# Altium footprint library ES_Pcb_x.PcbLib: 354 footprints (part 9 of 23)
Each footprint in its own frame and in the unit in brackets; x right, y up, seen from the top. Pads: shape width x height; smd on the part's side, far side on the other; paste and mask are expansions set on the pad; w line width, h text height; cw(c..) or ccw(c..) is an arc to the next point about the centre after c.
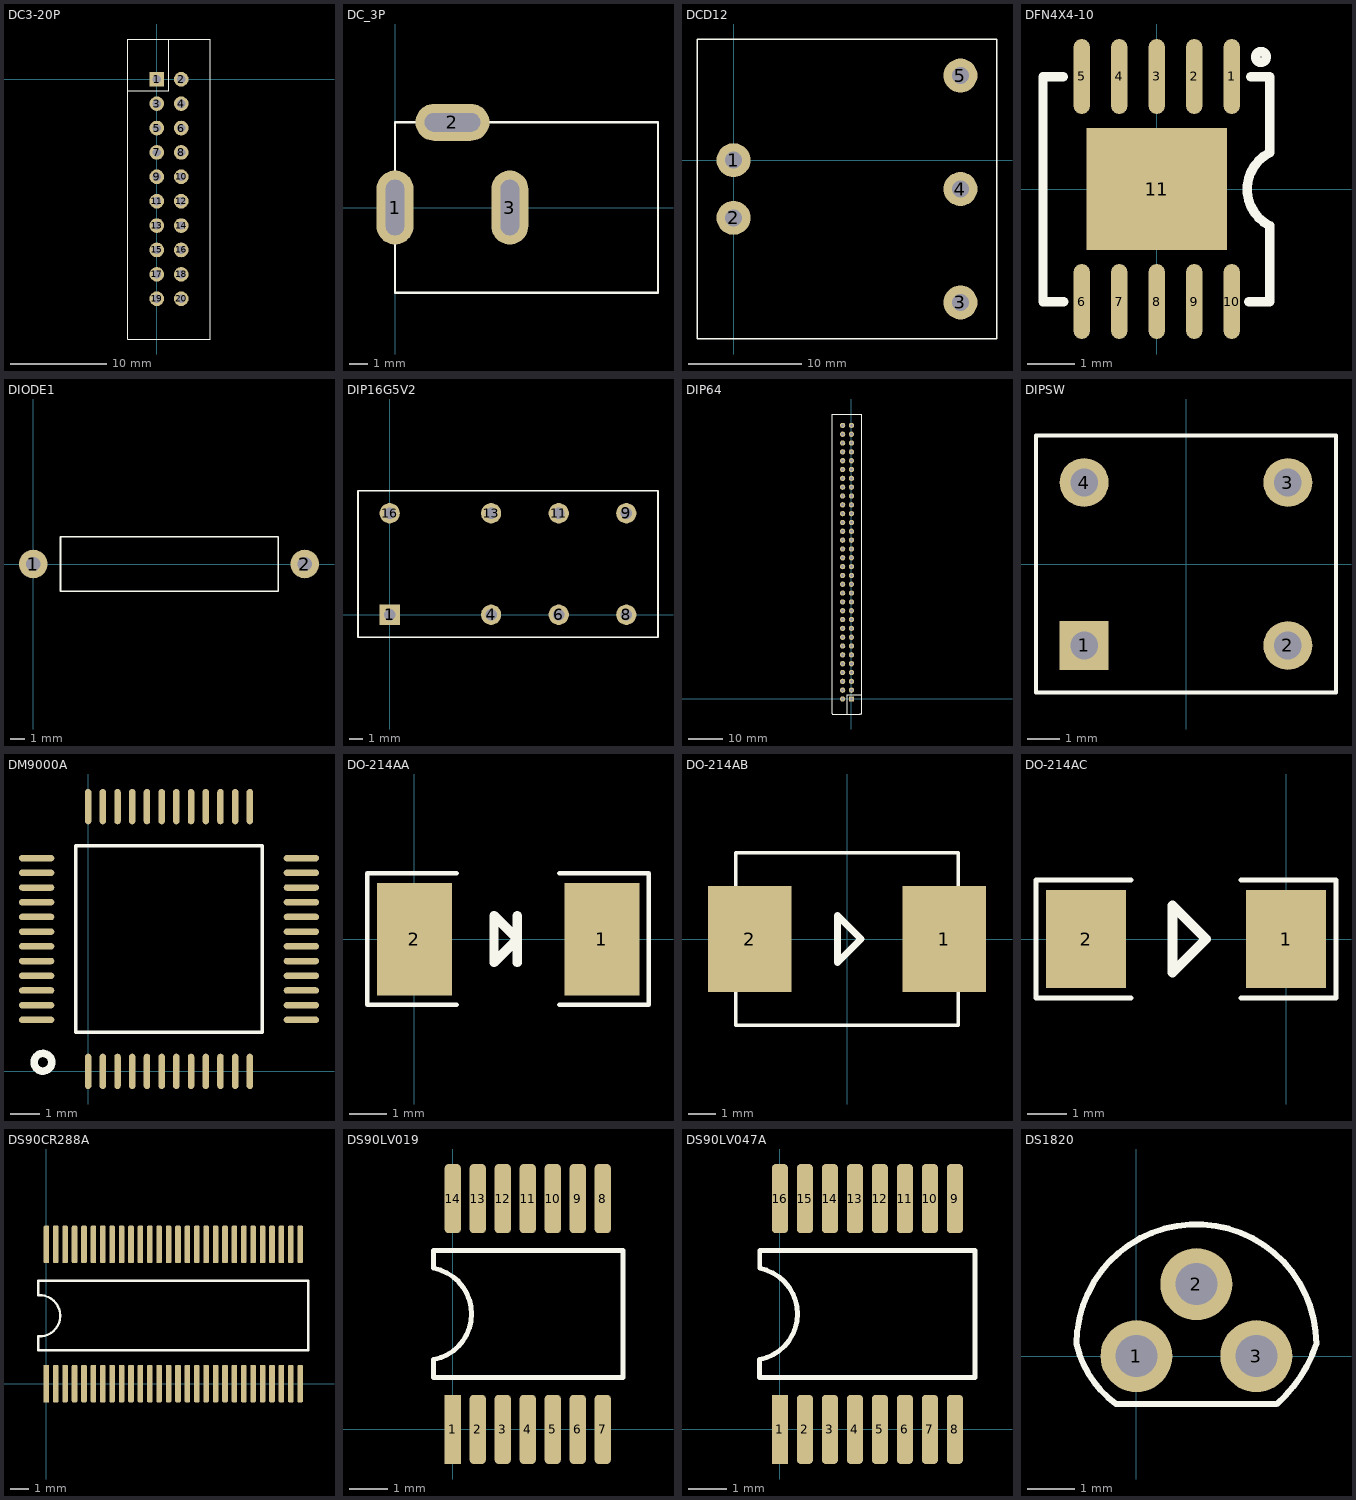
[diagram p8: the footprints below, top view; thin cyan lines are the x and y axes]

## DC3-20P [mil]
pads (20):
  rect 60x60 hole 34: 1(0,0)
  round 60 hole 34: 2(100,0) 3(0,-100) 4(100,-100) 5(0,-200) 6(100,-200) 7(0,-300) 8(100,-300) 9(0,-400) 10(100,-400) 11(0,-500) 12(100,-500) 13(0,-600) 14(100,-600) 15(0,-700) 16(100,-700) 17(0,-800) 18(100,-800) 19(0,-900) 20(100,-900)
Top Overlay:
  lines w5: -120,-48 49,-48 49,163 ; -120,-1065 -120,165 220,165 220,-1065 -120,-1065

## DC_3P [mm]
pads (3):
  oval 2x4 hole 1 slot 3 at 90 deg: 1(0,0) 3(6.2,0)
  oval 4x2 hole 1 slot 3 at 0 deg: 2(3.1,4.6)
Top Overlay:
  lines w0.127: 14.2,-4.6 0,-4.6 0,4.6 14.2,4.6 ; 14.2,-4.572 14.2,4.572

## DCD12 [mm]
pads (5):
  round 3 hole 1.5: 1(0,0) 2(0,-5.08) 3(20,-12.54) 4(20,-2.54) 5(20,7.46)
Top Overlay:
  lines w0.127: -3.225,-15.765 -3.225,10.685 23.225,10.685 23.225,-15.765 -3.225,-15.765

## DFN4X4-10 [mm]
pads (11):
  oval 0.35x1.6 smd: 1(1.6,2.4) 2(0.8,2.4) 3(0,2.4) 4(-0.8,2.4) 5(-1.6,2.4) 6(-1.6,-2.4) 7(-0.8,-2.4) 8(0,-2.4) 9(0.8,-2.4) 10(1.6,-2.4)
  rect 3x2.6 smd: 11(0,0)
Top Overlay:
  circle w0.2: c2.223,2.817 r0.115
  lines w0.2: -1.99,2.391 -2.426,2.391 -2.426,-2.409 -1.987,-2.409 ; 1.965,-2.409 2.409,-2.409 2.409,-0.779 ; 2.008,2.397 2.409,2.397 2.409,0.772 ; 2.409,-0.785 cw(c2.802,-0.005) 2.409,0.775

## DIODE1 [mm]
pads (2):
  round 2 hole 1: 1(0,0) 2(19,0)
Top Overlay:
  lines w0.127: 1.905,-1.905 17.145,-1.905 17.145,1.905 1.905,1.905 1.905,-1.905

## DIP16G5V2 [mil]
pads (8):
  rect 60x60 hole 34: 1(0,0)
  round 60 hole 34: 4(300,0) 6(500,0) 8(700,0) 9(700,300) 11(500,300) 13(300,300) 16(0,300)
Top Overlay:
  lines w5: -93.7,-66.53 -93.7,366.54 793.7,366.54 793.7,-66.53 -93.7,-66.53

## DIP64 [mil]
pads (64):
  rect 60x60 hole 32: 1(0,0)
  round 60 hole 32: 2(-100,0) 3(0,100) 4(-100,100) 5(0,200) 6(-100,200) 7(0,300) 8(-100,300) 9(0,400) 10(-100,400) 11(0,500) 12(-100,500) 13(0,600) 14(-100,600) 15(0,700) 16(-100,700) 17(0,800) 18(-100,800) 19(0,900) 20(-100,900) 21(0,1000) 22(-100,1000) 23(0,1100) 24(-100,1100) 25(0,1200) 26(-100,1200) 27(0,1300) 28(-100,1300) 29(0,1400) 30(-100,1400) 31(0,1500) 32(-100,1500) 33(0,1600) 34(-100,1600) 35(0,1700) 36(-100,1700) 37(0,1800) 38(-100,1800) 39(0,1900) 40(-100,1900) 41(0,2000) 42(-100,2000) 43(0,2100) 44(-100,2100) 45(0,2200) 46(-100,2200) 47(0,2300) 48(-100,2300) 49(0,2400) 50(-100,2400) 51(0,2500) 52(-100,2500) 53(0,2600) 54(-100,2600) 55(0,2700) 56(-100,2700) 57(0,2800) 58(-100,2800) 59(0,2900) 60(-100,2900) 61(0,3000) 62(-100,3000) 63(0,3100) 64(-100,3100)
Top Overlay:
  lines w5: -217.48,3228.78 -217.87,3229.17 ; -200.39,3229.17 -217.87,3229.17 ; -200,3228.78 101.77,3228.94 113.58,3228.94 117.13,3225.39 ; -50,-167.52 -50,50 98.82,50 113.39,50 ; 117.13,3225 117.13,-50 117.13,-167.13 114.76,-169.49 100,-169.49 99.49,-170 83.07,-170 -61.65,-170 -198.11,-170 -217.8,-170 -217.87,-169.92 -217.87,-50 -217.87,3220.08 -217.87,3229.17

## DIPSW [mil]
pads (4):
  rect 60x60 hole 34: 1(-125,-100)
  round 60 hole 34: 2(125,-100) 3(125,100) 4(-125,100)
Top Overlay:
  lines w5: -184.06,-157.48 -184.06,157.48 184.06,157.48 184.06,-157.48 -184.06,-157.48

## DM9000A [mm]
pads (48):
  oval 0.22x1.2 smd: 1(0,0) 2(0.5,0) 3(1,0) 4(1.5,0) 5(2,0) 6(2.5,0) 7(3,0) 8(3.5,0) 9(4,0) 10(4.5,0) 11(5,0) 12(5.5,0) 25(5.5,9) 26(5,9) 27(4.5,9) 28(4,9) 29(3.5,9) 30(3,9) 31(2.5,9) 32(2,9) 33(1.5,9) 34(1,9) 35(0.5,9) 36(0,9)
  oval 1.2x0.22 smd: 13(7.25,1.75) 14(7.25,2.25) 15(7.25,2.75) 16(7.25,3.25) 17(7.25,3.75) 18(7.25,4.25) 19(7.25,4.75) 20(7.25,5.25) 21(7.25,5.75) 22(7.25,6.25) 23(7.25,6.75) 24(7.25,7.25) 37(-1.75,7.25) 38(-1.75,6.75) 39(-1.75,6.25) 40(-1.75,5.75) 41(-1.75,5.25) 42(-1.75,4.75) 43(-1.75,4.25) 44(-1.75,3.75) 45(-1.75,3.25) 46(-1.75,2.75) 47(-1.75,2.25) 48(-1.75,1.75)
Top Overlay:
  circle w0.254: c-1.538,0.309 r0.3
  lines w0.127: -0.425,1.325 -0.425,7.675 5.925,7.675 5.925,1.325 -0.425,1.325

## DO-214AA [mil]
pads (2):
  rect 80x120 smd: 1(200,0) 2(0,0)
Top Overlay:
  lines w5: 45,-70 -50,-70 -50,70 45,70 ; 155,-70 250,-70 250,70 155,70
  lines w10: 110,-25 110,25 ; 85,-25 110,0 85,25 85,-25

## DO-214AB [mm]
pads (2):
  rect 3x3.8 smd: 1(3.5,0) 2(-3.5,0)
Top Overlay:
  lines w0.127: -4,-3.1 -4,3.1 4,3.1 4,-3.1 1.587,-3.1 -4,-3.1
  lines w0.254: -0.343,-0.851 0.508,0 -0.343,0.851 -0.343,-0.826

## DO-214AC [mm]
pads (2):
  rect 2.032x2.5 smd: 1(0,0) 2(-5.08,0)
Top Overlay:
  lines w0.127: -3.937,-1.5 -6.35,-1.5 -6.35,1.5 -3.937,1.5 ; -1.143,-1.5 1.27,-1.5 1.27,1.5 -1.143,1.5
  lines w0.254: -2.883,-0.851 -2.032,0 -2.883,0.851 -2.883,-0.826

## DS90CR288A [mm]
pads (56):
  rect 0.3x2 smd: 1(0,0)
  rrect50% 0.3x2 smd: 2(0.5,0) 3(1,0) 4(1.5,0) 5(2,0) 6(2.5,0) 7(3,0) 8(3.5,0) 9(4,0) 10(4.5,0) 11(5,0) 12(5.5,0) 13(6,0) 14(6.5,0) 15(7,0) 16(7.5,0) 17(8,0) 18(8.5,0) 19(9,0) 20(9.5,0) 21(10,0) 22(10.5,0) 23(11,0) 24(11.5,0) 25(12,0) 26(12.5,0) 27(13,0) 28(13.5,0) 29(13.5,7.4) 30(13,7.4) 31(12.5,7.4) 32(12,7.4) 33(11.5,7.4) 34(11,7.4) 35(10.5,7.4) 36(10,7.4) 37(9.5,7.4) 38(9,7.4) 39(8.5,7.4) 40(8,7.4) 41(7.5,7.4) 42(7,7.4) 43(6.5,7.4) 44(6,7.4) 45(5.5,7.4) 46(5,7.4) 47(4.5,7.4) 48(4,7.4) 49(3.5,7.4) 50(3,7.4) 51(2.5,7.4) 52(2,7.4) 53(1.5,7.4) 54(1,7.4) 55(0.5,7.4) 56(0,7.4)
Top Overlay:
  lines w0.127: -0.425,1.778 13.925,1.778 13.925,5.461 -0.425,5.461 -0.425,4.699 cw(c-0.359,3.605) -0.424,2.511 -0.424,1.779

## DS90LV019 [mm]
pads (14):
  rect 0.42x1.8 smd: 1(0,0)
  rrect50% 0.42x1.8 smd: 2(0.65,0) 3(1.3,0) 4(1.95,0) 5(2.6,0) 6(3.25,0) 7(3.9,0) 8(3.9,6) 9(3.25,6) 10(2.6,6) 11(1.95,6) 12(1.3,6) 13(0.65,6) 14(0,6)
Top Overlay:
  lines w0.127: -0.5,1.816 -0.5,1.349 4.425,1.349 4.425,4.651 -0.5,4.651 -0.5,4.19 ; -0.492,1.816 ccw(c-0.718,3.003) -0.491,4.19

## DS90LV047A [mm]
pads (16):
  rect 0.42x1.8 smd: 1(0,0)
  rrect50% 0.42x1.8 smd: 2(0.65,0) 3(1.3,0) 4(1.95,0) 5(2.6,0) 6(3.25,0) 7(3.9,0) 8(4.55,0) 9(4.55,6) 10(3.9,6) 11(3.25,6) 12(2.6,6) 13(1.95,6) 14(1.3,6) 15(0.65,6) 16(0,6)
Top Overlay:
  lines w0.127: -0.526,1.349 -0.526,1.816 ccw(c-0.752,3.003) -0.525,4.19 -0.525,4.651 5.075,4.651 5.075,1.349 -0.525,1.349

## DS1820 [mil]
pads (3):
  round 60 hole 35: 1(0,0) 2(50,60) 3(100,0)
Top Overlay:
  lines w5: -50,10 cw(c50,10) 150,10 ; -50.02,10.07 ccw(c34.17,29.66) -17,-40 117,-40 ccw(c41.33,45.83) 150.03,10.09